# EAGLE library part EFD30_PRI1_PRI2_SEC1_SEC2 (library efd)
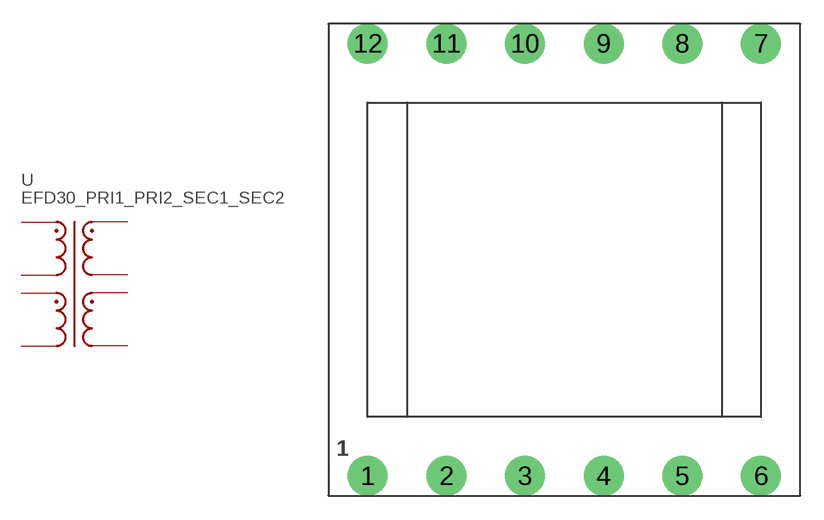
[diagram p0: symbol with the pads of EFD30; footprint EFD30]

Designator prefix -

## EFD30_PRI1_PRI2_SEC1_SEC2  [EFD30]
1  PRI1A
2  PRI2A
5  SEC2A
6  SEC1A
7  SEC1B
8  SEC2B
11  PRI2B
12  PRI1B

## Footprint EFD30 (pad centres in mm)
drill 1 pad 2.54: 1 -12.5,-13.75; 2 -7.5,-13.75; 3 -2.5,-13.75; 4 2.5,-13.75; 5 7.5,-13.75; 6 12.5,-13.75; 7 12.5,13.75; 8 7.5,13.75; 9 2.5,13.75; 10 -2.5,13.75; 11 -7.5,13.75; 12 -12.5,13.75